# Altium footprint library car_fuse.PcbLib: 1 footprints
Each footprint in its own frame and in the unit in brackets; x right, y up, seen from the top. Pads: shape width x height; smd on the part's side, far side on the other; paste and mask are expansions set on the pad; w line width, h text height; cw(c..) or ccw(c..) is an arc to the next point about the centre after c.
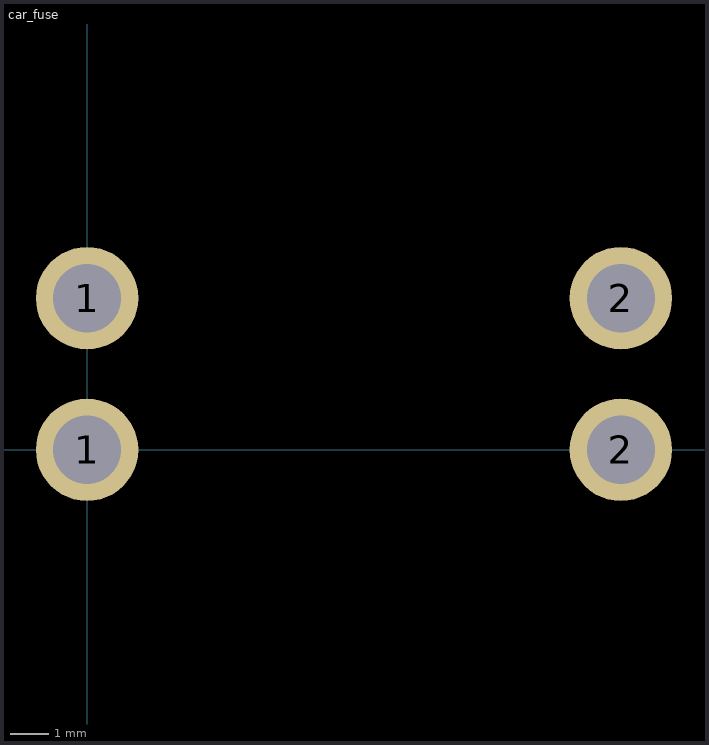
[diagram p0: the footprint, top view; thin cyan lines are the x and y axes]

## car_fuse [mm]
pads (4):
  round 2.7 hole 1.8: 1(0,0) 1(0,4) 2(14.07,0) 2(14.07,4)